# EAGLE library part ADC-AD7680 (library lowfieldmri)
Analog Devices AD7680 16-bit 100ksps ADC with SPI interface
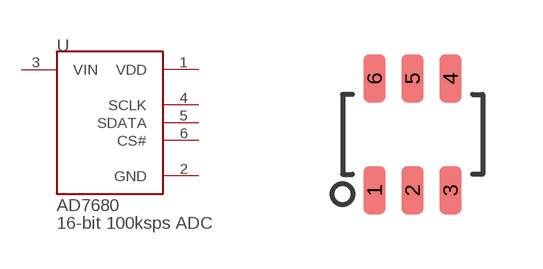
[diagram p8: symbol with the pads of SOT-23-6L; footprint SOT-23-6L]

Designator prefix -

## ADC-AD7680  [SOT-23-6L]
1  VDD
2  GND
3  VIN
4  SCLK
5  SDATA
6  CS#

## Footprint SOT-23-6L (pad centres in mm)
smd 0.55 x 1.2: 1 -0.95,-1.4; 2 0,-1.4; 3 0.95,-1.4; 4 0.95,1.4; 5 0,1.4; 6 -0.95,1.4